# Altium footprint library Components - 25.02.24 - 13.56.PcbLib: 1 footprints
Each footprint in its own frame and in the unit in brackets; x right, y up, seen from the top. Pads: shape width x height; smd on the part's side, far side on the other; paste and mask are expansions set on the pad; w line width, h text height; cw(c..) or ccw(c..) is an arc to the next point about the centre after c.
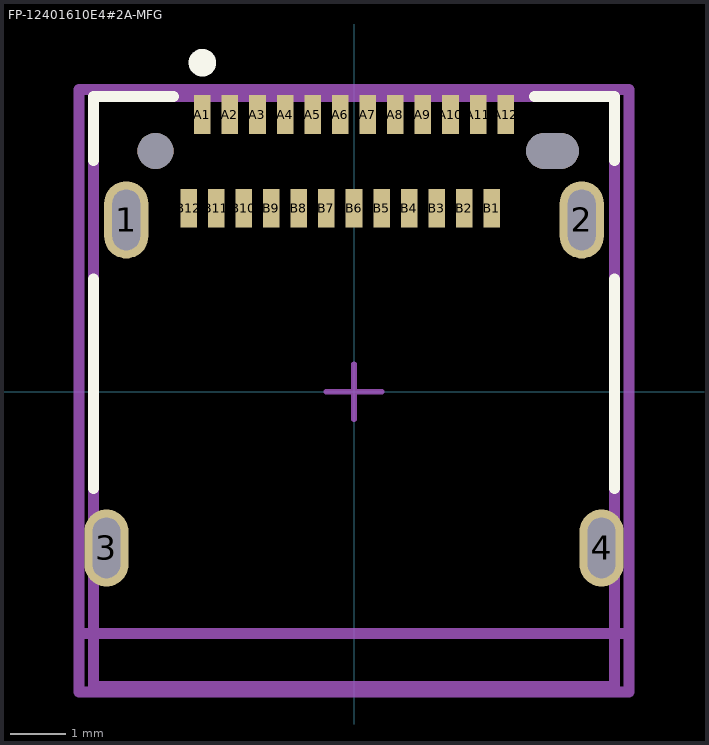
[diagram p0: the footprint, top view; thin cyan lines are the x and y axes]

## FP-12401610E4#2A-MFG [mm]
pads (30):
  rrect100% 0.8x1.4 hole 1.1 slot 0.5 at 0 deg paste-1000 mask+0: 1(-4.13,3.115) 2(4.13,3.115) 3(-4.49,-2.835) 4(4.49,-2.835)
  rect 0.3x0.7 smd paste+0 mask+0: A1(-2.75,5.025) A2(-2.25,5.025) A3(-1.75,5.025) A4(-1.25,5.025) A5(-0.75,5.025) A6(-0.25,5.025) A7(0.25,5.025) A8(0.75,5.025) A9(1.25,5.025) A10(1.75,5.025) A11(2.25,5.025) A12(2.75,5.025) B1(2.5,3.325) B2(2,3.325) B3(1.5,3.325) B4(1,3.325) B5(0.5,3.325) B6(0,3.325) B7(-0.5,3.325) B8(-1,3.325) B9(-1.5,3.325) B10(-2,3.325) B11(-2.5,3.325) B12(-3,3.325)
  round 0.65 hole 0.65 unplated paste-1000 mask+0: ""(-3.6,4.365)
  rrect100% 0.95x0.65 hole 0.65 slot 0.95 at 0 deg unplated paste-1000 mask+0: ""(3.6,4.365)
Top Overlay:
  circle w0.25: c-2.75,5.965 r0.125
  lines w0.2: -4.725,-1.76 -4.725,2.04 ; -4.725,4.19 -4.725,5.35 -3.275,5.35 ; 3.275,5.35 4.725,5.35 4.725,4.19 ; 4.725,-1.76 4.725,2.04
Top Assembly:
  lines w0.2: -4.99,-5.45 -4.99,5.475 4.99,5.475 4.99,-5.45 -4.99,-5.45
  text ".Designator" at 0,0.012 h1
Top 3D Body:
  lines w0.2: -4.99,-4.385 4.99,-4.385 ; -4.725,-5.35 -4.725,5.35 4.725,5.35 4.725,-5.35 -4.725,-5.35
Top Courtyard:
  lines w0.2: -4.99,-5.45 -4.99,5.475 4.99,5.475 4.99,-5.45 -4.99,-5.45
Top Component Center:
  lines w0.1: -0.5,0 0.5,0 ; 0,-0.5 0,0.5
3D body "Conn_Amphenol_12401610E4#2A_eec.STEP": height 0.25, standoff 0, extent -4.99,-5.45 4.99,5.475